# EAGLE library part RJ45_SMT (library Labops_Lib_AH)
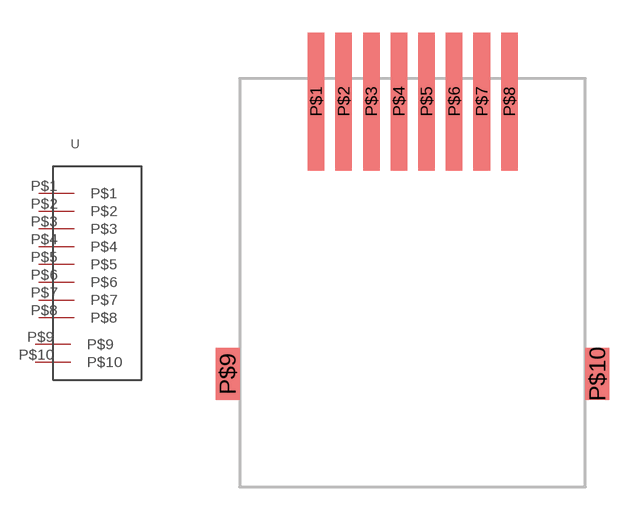
[diagram p3: symbol with the pads of RJ45_SMT; footprint RJ45_SMT]

Designator prefix -

## RJ45_SMTRJ  [RJ45_SMT]
P$1  P$1
P$2  P$2
P$3  P$3
P$4  P$4
P$5  P$5
P$6  P$6
P$7  P$7
P$8  P$8
P$9  P$9
P$10  P$10

## Footprint RJ45_SMT (pad centres in mm)
smd 0.76 x 6.35: P$1 -3.18,8.94; P$2 -1.91,8.94; P$3 -0.64,8.94; P$4 0.63,8.94; P$5 1.9,8.94; P$6 3.17,8.94; P$7 4.44,8.94; P$8 5.71,8.94
smd 1.1 x 2.4: P$9 -7.25,-3.6; P$10 9.75,-3.6